# EAGLE library part PS9817A-2 (library optocoupler)
The PS9817A-1 and PS9817A-2 are active-low type high-speed photocouplers that use a GaAlAs light-emitting diode on the input side and a photodetector IC that includes a photodiode and a signal processor on the same chip on the output side.
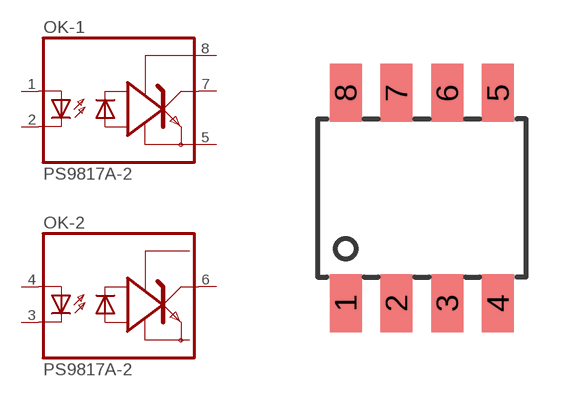
[diagram p2: symbol with the pads of SO8F; footprint SO8F]

Designator prefix OK; gates -1=PHOTO-OK -2=PHOTO-OK-NOPWR

## PS9817A-2  [SO8F]
1  -1:A  pas
2  -1:C  pas
3  -2:C  pas
4  -2:A  pas
5  -1:GND  pwr
6  -2:COL  oc
7  -1:COL  oc
8  -1:VDD  pwr

## Footprint SO8F (pad centres in mm)
smd 0.8 x 1.45: 1 -1.905,-2.625; 2 -0.635,-2.625; 3 0.635,-2.625; 4 1.905,-2.625; 5 1.905,2.625; 6 0.635,2.625; 7 -0.635,2.625; 8 -1.905,2.625